# Altium schematic symbol library crystal.SchLib: 1 symbol
Pins are listed as number, name and electrical type; pins without a type are passive.

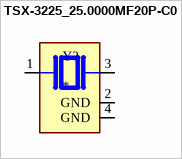
[diagram p0: symbol TSX-3225_25.0000MF20P-C0]

## TSX-3225_25.0000MF20P-C0
designator Y?
25 MHz Â±10ppm Crystal 18pF 40 Ohms 4-SMD, No Lead; MP: TSX-3225 25.0000MF20P-C0; MF: EPSON; SnapEDA_Link: https://www.snapeda.com/parts/TSX-3225%2025.0000MF20P-C0/EPSON/view-part/?ref=snap; Availability: In Stock; Package: NON STANDARD-4 EPSON; Check_prices: https://www.snapeda.com/parts/TSX-3225%2025.0000MF20P-C0/EPSON/view-part/?ref=eda; Value: *; Purchase-URL: https://pricing.snapeda.com/search/part/TSX-3225 25.0000MF20P-C0/?ref=eda; Price: None
footprint XTAL_TSX-3225_25.0000MF20P-C0
pins: 1, 2 GND (power), 3 2, 4 GND (power)